# Altium schematic symbol library Rectifier.SchLib: 1 symbol
Pins are listed as number, name and electrical type; pins without a type are passive.

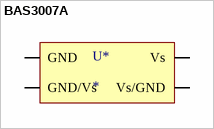
[diagram p0: symbol BAS3007A]

## BAS3007A
designator U*
Low VF Schottky Diode Array
footprint BAS007A (SOT143, 4-Leads, Body 2.90x2.40mm, Pitch 1.90mm, IPC Medium Density)
pins: 1 GND, 2 GND/Vs, 3 Vs/GND, 4 Vs